# Altium integrated library PCA9542APW_DG_118.IntLib: 1 symbol
Pins are listed as number, name and electrical type; pins without a type are passive.

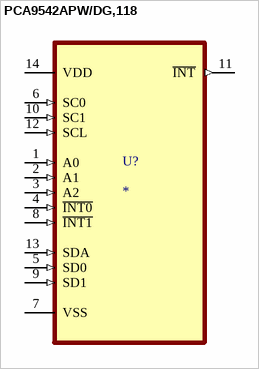
[diagram p0: symbol PCA9542APW/DG,118]

## PCA9542APW/DG,118
designator U?
2-channel I2C-bus multiplexer and interrupt logic; MP: PCA9542APW/DG,118; Package: None; Price: None; Value: *; Availability: Unavailable
footprint SOP65P640X110-14N
pins: 1 A0 (in), 2 A1 (in), 3 A2 (in), 4 ~{INT0} (in), 5 SD0 (in), 6 SC0 (in), 7 VSS, 8 ~{INT1} (in), 9 SD1 (in), 10 SC1 (in), 11 ~{INT} (out), 12 SCL (in), 13 SDA (in), 14 VDD (power)